# Altium schematic symbol library Switches.SchLib: 57 symbols
Pins are listed as number, name and electrical type; pins without a type are passive.

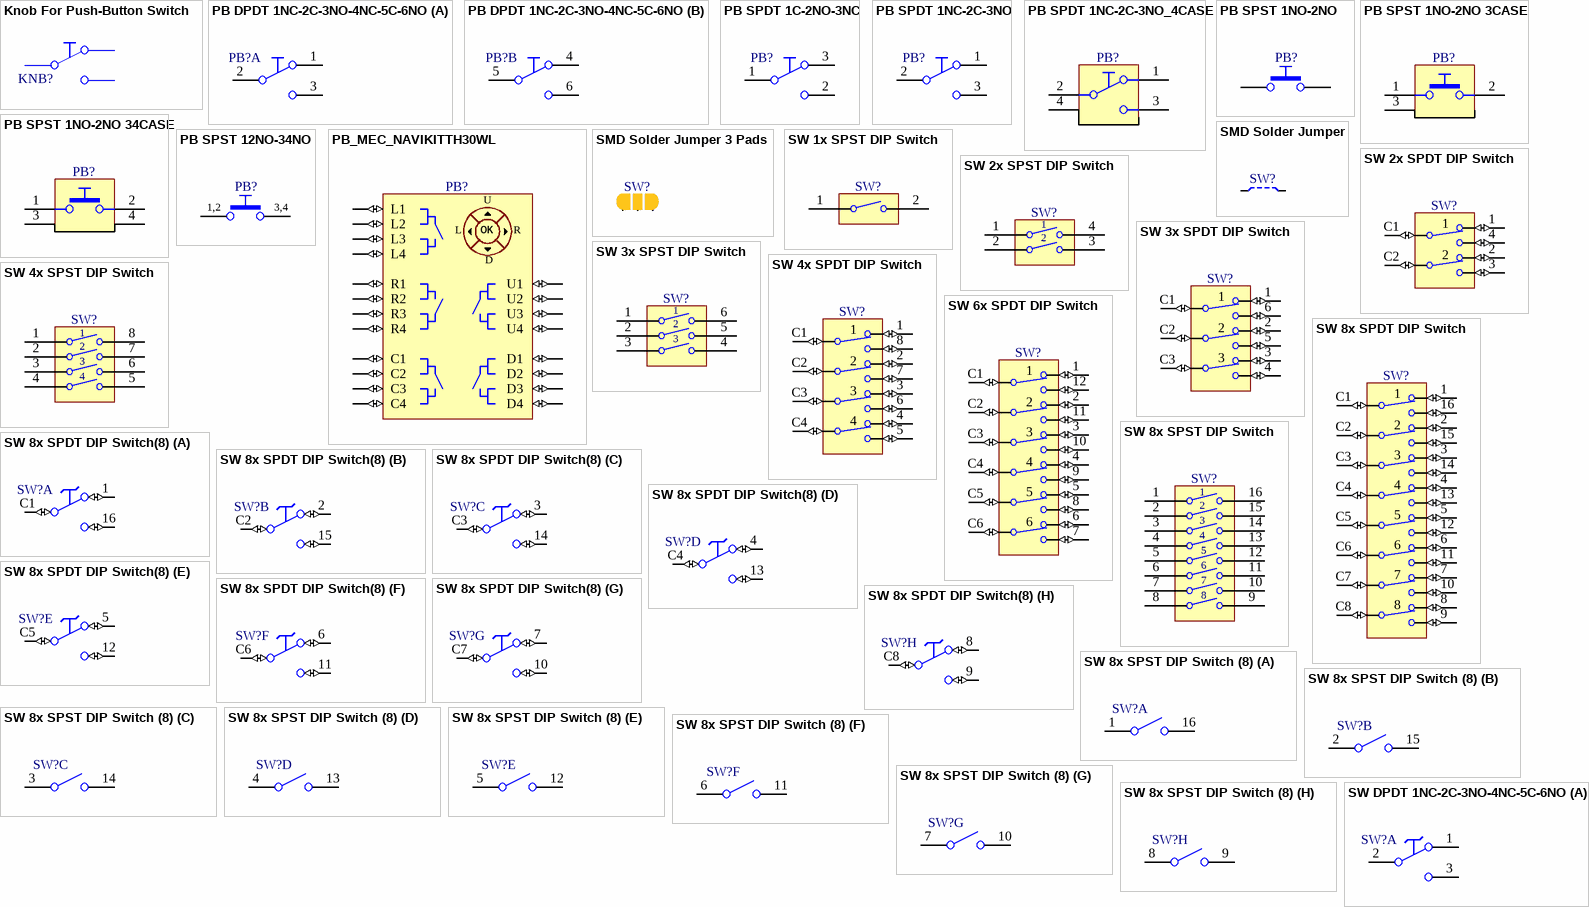
[diagram p0: symbols Knob For Push-Button Switch to SW DPDT 1NC-2C-3NO-4NC-5C-6NO]

## Knob For Push-Button Switch
designator KNB?
Knob For Push-Button Switch

## PB DPDT 1NC-2C-3NO-4NC-5C-6NO
designator PB?
Push-Button Switch DPDT
part A pins: 1, 2, 3
part B pins: 4, 5, 6

## PB SPDT 1C-2NO-3NC
designator PB?
Push-Button Switch SPDT
pins: 1 C, 2 NO, 3 NC

## PB SPDT 1NC-2C-3NO
designator PB?
Push-Button Switch SPDT
pins: 1, 2, 3

## PB SPDT 1NC-2C-3NO_4CASE
designator PB?
Push-Button Switch SPDT
pins: 1, 2, 3, 4

## PB SPST 1NO-2NO
designator PB?
Push-Button Switch SPDT
pins: 1, 2

## PB SPST 1NO-2NO 3CASE
designator PB?
Push-Button Switch SPDT
pins: 1, 2, 3

## PB SPST 1NO-2NO 34CASE
designator PB?
Push-Button Switch SPDT
pins: 1, 2, 3, 4

## PB SPST 12NO-34NO
designator PB?
Push-Button Switch SPDT
pins: 1, 2, 3, 4
text: 1,2; 3,4

## PB_MEC_NAVIKITTH30WL
designator PB?
4 pcs. 1ZB Keycaps on 3A Switches And 1 pc. of 1ZC on 3F Switches, MEC NAVIMEC
pins: C1 (io), C2 (io), C3 (io), C4 (io), D1 (io), D2 (io), D3 (io), D4 (io), L1 (io), L2 (io), L3 (io), L4 (io), R1 (io), R2 (io), R3 (io), R4 (io), U1 (io), U2 (io), U3 (io), U4 (io)
text: U; L; OK; R; D

## SMD Solder Jumper
designator SW?
2 SMD Pads for Bound by Solder  Drop
pins: 1, 2

## SMD Solder Jumper 3 Pads
designator SW?
3 SMD Pads for Bound by Solder  Drop
pins: 1, 2, 3

## SW 1x SPST DIP Switch
designator SW?
1 Ways SPST DIP Switch
pins: 1, 2

## SW 2x SPDT DIP Switch
designator SW?
2x SPDT Switch
pins: 1 NC (io), 2 NC (io), 3 NO (io), 4 NO (io), C1 C (io), C2 C (io)

## SW 2x SPST DIP Switch
designator SW?
2 Ways SPST DIP Switch
pins: 1, 2, 3, 4

## SW 3x SPDT DIP Switch
designator SW?
3x SPDT Switch
pins: 1 NX (io), 2 NC (io), 3 NC (io), 4 NO (io), 5 NO (io), 6 NO (io), C1 C (io), C2 C (io), C3 C (io)

## SW 3x SPST DIP Switch
designator SW?
3 Ways SPST DIP Switch
pins: 1, 2, 3, 4, 5, 6

## SW 4x SPDT DIP Switch
designator SW?
4x SPDT Switch
pins: 1 NC (io), 2 NC (io), 3 NC (io), 4 NC (io), 5 NO (io), 6 NO (io), 7 NO (io), 8 NO (io), C1 C (io), C2 C (io), C3 C (io), C4 C (io)

## SW 4x SPST DIP Switch
designator SW?
4 Ways SPST DIP Switch
pins: 1, 2, 3, 4, 5, 6, 7, 8

## SW 6x SPDT DIP Switch
designator SW?
6x SPDT Switch
pins: 1 NC (io), 2 NC (io), 3 NC (io), 4 NC (io), 5 NC (io), 6 NC (io), 7 NO (io), 8 NO (io), 9 NO (io), 10 NO (io), 11 NO (io), 12 NO (io), C1 C (io), C2 C (io), C3 C (io), C4 C (io), C5 C (io), C6 C (io)

## SW 8x SPDT DIP Switch
designator SW?
8x SPDT Switch
pins: 1 NC (io), 2 NC (io), 3 NC (io), 4 NC (io), 5 NC (io), 6 NC (io), 7 NC (io), 8 NC (io), 9 NO (io), 10 NO (io), 11 NO (io), 12 NO (io), 13 NO (io), 14 NO (io), 15 NO (io), 16 NO (io), C1 C (io), C2 C (io), C3 C (io), C4 C (io), C5 C (io), C6 C (io), C7 C (io), C8 C (io)

## SW 8x SPDT DIP Switch(8)
designator SW?
8x SPDT Switch
part A pins: 1 NC (io), 16 NO (io), C1 C (io)
part B pins: 2 NC (io), 15 NO (io), C2 C (io)
part C pins: 3 NC (io), 14 NO (io), C3 C (io)
part D pins: 4 NC (io), 13 NO (io), C4 C (io)
part E pins: 5 NC (io), 12 NO (io), C5 C (io)
part F pins: 6 NC (io), 11 NO (io), C6 C (io)
part G pins: 7 NC (io), 10 NO (io), C7 C (io)
part H pins: 8 NC (io), 9 NO (io), C8 C (io)

## SW 8x SPST DIP Switch
designator SW?
8 Ways SPST DIP Switch
pins: 1, 2, 3, 4, 5, 6, 7, 8, 9, 10, 11, 12, 13, 14, 15, 16

## SW 8x SPST DIP Switch (8)
designator SW?
8 Ways SPST DIP Switch
part A pins: 1, 16
part B pins: 2, 15
part C pins: 3, 14
part D pins: 4, 13
part E pins: 5, 12
part F pins: 6, 11
part G pins: 7, 10
part H pins: 8, 9

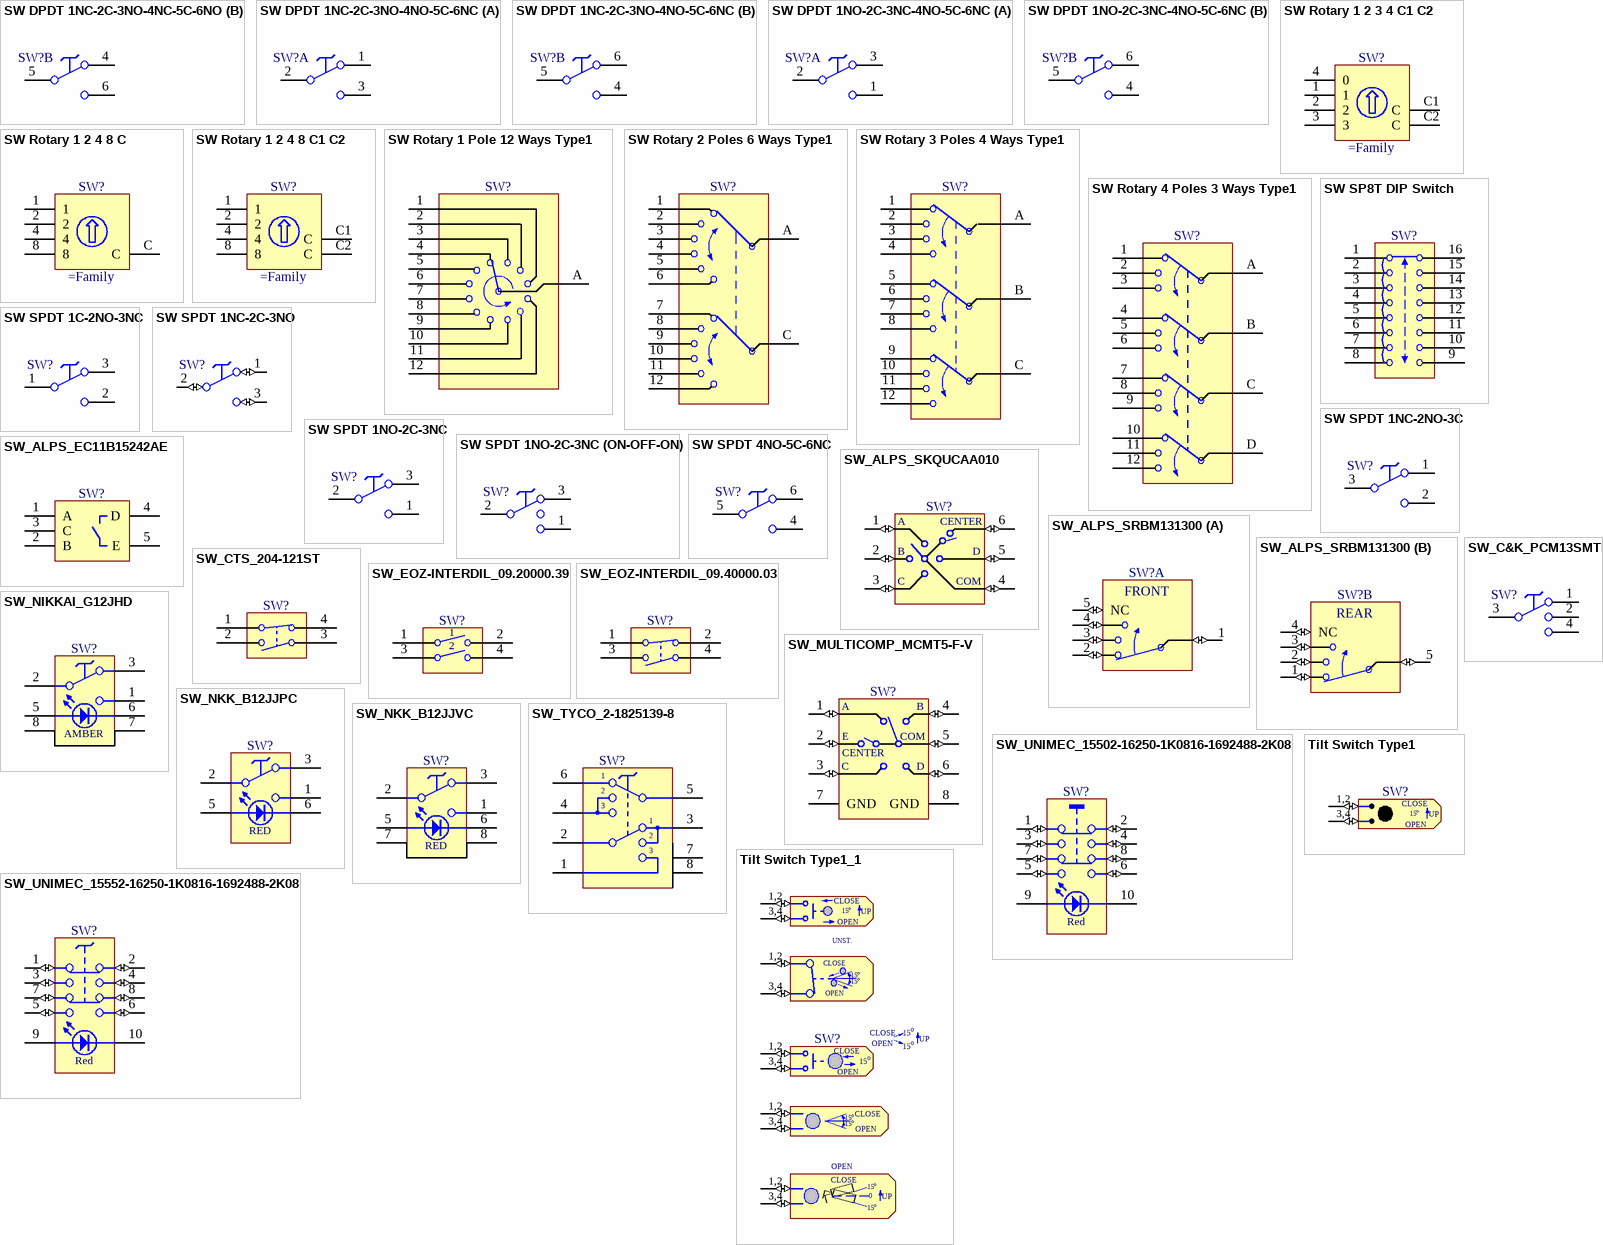
[diagram p1: symbols SW DPDT 1NC-2C-3NO-4NC-5C-6NO to Tilt Switch Type1_1]

## SW DPDT 1NC-2C-3NO-4NC-5C-6NO
designator SW?
DPDTSwitch
part A pins: 1 NC, 2 C, 3 NO
part B pins: 4 NC, 5 C, 6 NO

## SW DPDT 1NC-2C-3NO-4NO-5C-6NC
designator SW?
DPDTSwitch
part A pins: 1, 2, 3
part B pins: 4, 5, 6

## SW DPDT 1NO-2C-3NC-4NO-5C-6NC
designator SW?
DPDTSwitch
part A pins: 1, 2, 3
part B pins: 4, 5, 6

## SW Rotary 1 2 3 4 C1 C2
designator SW?
Rotary Code Switch 1 2 3 4 C1 C2
pins: 1, 2, 3, 4 0, C1 C, C2 C

## SW Rotary 1 2 4 8 C
designator SW?
Rotary Code Switch 1 2 4 8 C
pins: 1, 2, 4, 8, C

## SW Rotary 1 2 4 8 C1 C2
designator SW?
Rotary Code Switch 1 2 4 8 C1 C2
pins: 1, 2, 4, 8, C1 C, C2 C

## SW Rotary 1 Pole 12 Ways Type1
designator SW?
1 Pole 12 Ways Rotary Switch
pins: 1, 2, 3, 4, 5, 6, 7, 8, 9, 10, 11, 12, A

## SW Rotary 2 Poles 6 Ways Type1
designator SW?
2 Poles 6 Ways Rotary Switch
pins: 1, 2, 3, 4, 5, 6, 7, 8, 9, 10, 11, 12, A, C

## SW Rotary 3 Poles 4 Ways Type1
designator SW?
3 Poles 4 Ways Rotary Switch
pins: 1, 2, 3, 4, 5, 6, 7, 8, 9, 10, 11, 12, A, B, C

## SW Rotary 4 Poles 3 Ways Type1
designator SW?
4 Poles 3 Ways Rotary Switch
pins: 1, 2, 3, 4, 5, 6, 7, 8, 9, 10, 11, 12, A, B, C, D

## SW SP8T DIP Switch
designator SW?
SP8T DIP Switch
pins: 1, 2, 3, 4, 5, 6, 7, 8, 9, 10, 11, 12, 13, 14, 15, 16

## SW SPDT 1C-2NO-3NC
designator SW?
SPDT Switch
pins: 1, 2, 3

## SW SPDT 1NC-2C-3NO
designator SW?
SPDT Switch
pins: 1 NC (io), 2 C (io), 3 NO (io)

## SW SPDT 1NC-2NO-3C
designator SW?
SPDT Switch
pins: 1, 2, 3

## SW SPDT 1NO-2C-3NC
designator SW?
SPDT Switch
pins: 1 NO, 2 C, 3 NC

## SW SPDT 1NO-2C-3NC (ON-OFF-ON)
designator SW?
SPDT Switch
pins: 1 NO, 2 C, 3 NC

## SW SPDT 4NO-5C-6NC
designator SW?
Push-Button Switch SPDT
pins: 4 NO, 5 C, 6 NC

## SW_ALPS_EC11B15242AE
designator SW?
Encoder, 30-Detent, 15-Pulse, Horizontal With Push-on Switch
pins: 1 A, 2 B, 3 C, 4 D, 5 E

## SW_ALPS_SKQUCAA010
designator SW?
Compact 10mm square TACT Switch type provides compound actions of 4-directional and center push
pins: 1 A (io), 2 E (io), 3 C (io), 4 D (io), 5 COM (io), 6 B (io)
text: CENTER

## SW_ALPS_SRBM131300
designator SW?
2 Poles 3 Ways Rotary Switch
part A pins: F1 C (io), F2 P1 (io), F3 P2 (io), F4 P3 (io), F5 NC (io)
part B pins: R1 P1 (io), R2 P2 (io), R3 P3 (io), R4 NC (io), R5 C (io)
part A text: FRONT; 5; 4; 3; 1; 2
part B text: REAR; 4; 3; 2; 5; 1

## SW_C&K_PCM13SMTR
designator SW?
SP3T, Right Angled Ultraminiature Surface Mount Slide Switches, C&K PCM Series
pins: 1 T1, 2 T2, 3 P, 4 T3

## SW_CTS_204-121ST
designator SW?
2x SPST DIP Switch 1NO + 1NF
pins: 1, 2, 3, 4

## SW_EOZ-INTERDIL_09.20000.39
designator SW?
2x SPST DIP Switch 2x NO
pins: 1, 2, 3, 4

## SW_EOZ-INTERDIL_09.40000.03
designator SW?
2x SPST DIP Switch 1NO + 1NF
pins: 1, 2, 3, 4

## SW_MULTICOMP_MCMT5-F-V
designator SW?
Navigation Switch - Multidirectional 5 Way
pins: 1 A (io), 2 E (io), 3 C (io), 4 D (io), 5 COM (io), 6 B (io), 7 GND (power), 8 GND (power)
text: CENTER

## SW_NIKKAI_G12JHD
designator SW?
SPDT Switch
pins: 1, 2, 3, 5, 6, 7, 8
text: AMBER

## SW_NKK_B12JJPC
designator SW?
SPDT ON NONE ON Red Illuminated Switch
pins: 1, 2, 3, 5, 6
text: RED

## SW_NKK_B12JJVC
designator SW?
SPDT ON NONE ON Red Illuminated Switch
pins: 1, 2, 3, 5, 6, 7, 8
text: RED

## SW_TYCO_2-1825139-8
designator SW?
DPDT Switch (ON-ON-ON)
pins: 1, 2, 3, 4, 5, 6, 7, 8

## SW_UNIMEC_15502-16250-1K0816-1692488-2K08
designator SW?
Momentary Gold 2 Poles Switch With Extender + Red Cap + Red LED + Red Bezel
pins: 1 (io), 2 (io), 3 (io), 4 (io), 5 (io), 6 (io), 7 (io), 8 (io), 9, 10
text: Red

## SW_UNIMEC_15552-16250-1K0816-1692488-2K08
designator SW?
Alternate Gold 2 Poles Switch With Extender + Red Cap + Red LED + Red Bezel
pins: 1 (io), 2 (io), 3 (io), 4 (io), 5 (io), 6 (io), 7 (io), 8 (io), 9, 10
text: Red

## Tilt Switch Type1
designator SW?
Rollerball - Tilt Switch
pins: 1 (io), 2 (io), 3 (io), 4 (io)
text: 1,2; CLOSE; 15; o; UP; 3,4; OPEN

## Tilt Switch Type1_1
designator SW?
Rollerball - Tilt Switch
pins: 1 (io), 1 (io), 1 (io), 1 (io), 1 (io), 2 (io), 2 (io), 2 (io), 2 (io), 2 (io), 3 (io), 3 (io), 3 (io), 3 (io), 3 (io), 4 (io), 4 (io), 4 (io), 4 (io), 4 (io)
text: 1,2; CLOSE; 15; o; UP; 3,4; OPEN; UNST.; 0